# Altium schematic symbol library Connectors.SchLib: 5 symbols
Pins are listed as number, name and electrical type; pins without a type are passive.

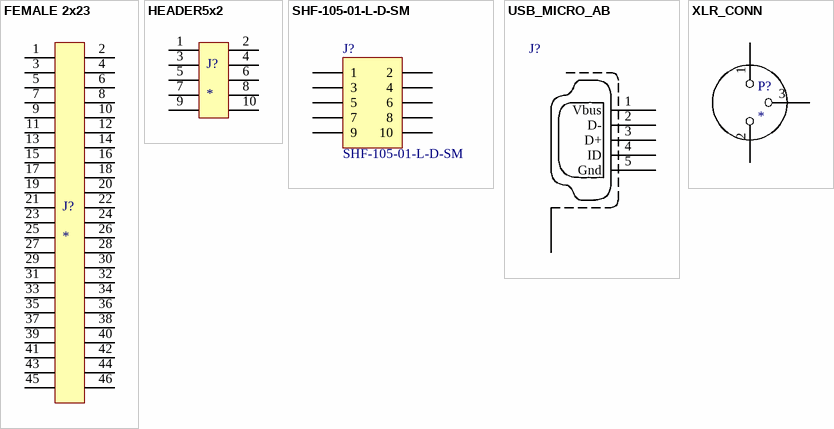
[diagram p0: symbols FEMALE 2x23 to XLR_CONN]

## FEMALE 2x23
designator J?
2x23 header connector
footprint HEADER2X23_2P54 (2 row by 23 pin header, 2.54mm pitch)
pins: 1, 2, 3 2, 4 3, 5 3, 6 4, 7 4, 8 5, 9 5, 10 6, 11 6, 12 7, 13 7, 14 8, 15 8, 16 9, 17 9, 18 10, 19 10, 20 11, 21 11, 22 12, 23 12, 24 13, 25 13, 26 14, 27 14, 28 15, 29 15, 30 16, 31 16, 32 17, 33 17, 34 18, 35 18, 36 19, 37 19, 38 20, 39 20, 40 21, 41 21, 42 22, 43 22, 44 23, 45 23, 46 24

## HEADER5x2
designator J?
Header, 2 row, 5 pins per row
footprint HDR2X5_1p27 (2 row, 5 pin header, 1.27mm pitch)
pins: 1, 2, 3, 4, 5, 6, 7, 8, 9, 10

## SHF-105-01-L-D-SM
designator J?
Samtec 2x5 way boxed header, 1.27mm pitch, SMT, vertical; Manufacturer: Samtec; PartNumber: SHF-105-01-L-D-SM
footprint SHF-105-01-L-D-SM (2x5 way header, 1.27mm pitch, vertical)
pins: 1, 2, 3, 4, 5, 6, 7, 8, 9, 10

## USB_MICRO_AB
designator J?, comment MUSBK15230  (value not drawn)
USB Micro AB connector, panel mount; PartNumber: MUSBK15230; Supplier 1: Farnell; Supplier Part Number 1: 2708977
footprint MUSBK15230-ND (USB Micro AB, panel mount)
pins: 0 Shield, 1 Vbus, 2 D-, 3 D+, 4 ID, 5 Gnd

## XLR_CONN
designator P?
XLR connector
footprint Amphenol_AC3FAH
pins: 1 GND, 2 COLD, 3 HOT